# EAGLE library part X09X2 (library connectors)
Connector 2x9 pins
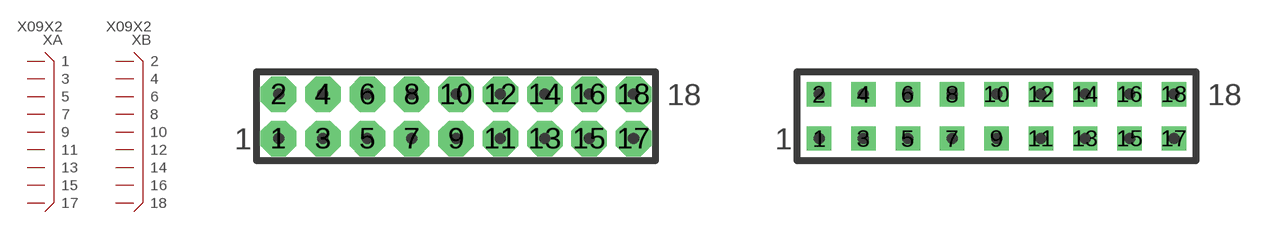
[diagram p48: symbol with the pads of X18N-DIL; footprints X18N-DIL, X18R-DIL]

Designator prefix X; gates A=X18A B=X18B

## X09X2D  [X18N-DIL]
1  A:1
2  B:2
3  A:3
4  B:4
5  A:5
6  B:6
7  A:7
8  B:8
9  A:9
10  B:10
11  A:11
12  B:12
13  A:13
14  B:14
15  A:15
16  B:16
17  A:17
18  B:18

## X09X2DR  [X18R-DIL]
Pads as for X18N-DIL

## X09X2I  [X18N-IDC]
Pads as for X18N-DIL

## X09X2  [X18N-IDC]
Pads as for X18N-DIL

## X09X2IR  [X18R-IDC]
Pads as for X18N-DIL

## Footprint X18N-DIL (pad centres in mm)
Connector 18 pins, DIL
drill 0.889 pad 2.032 octagon: 1 -10.16,-1.27; 2 -10.16,1.27; 3 -7.62,-1.27; 4 -7.62,1.27; 5 -5.08,-1.27; 6 -5.08,1.27; 7 -2.54,-1.27; 8 -2.54,1.27; 9 0,-1.27; 10 0,1.27; 11 2.54,-1.27; 12 2.54,1.27; 13 5.08,-1.27; 14 5.08,1.27; 15 7.62,-1.27; 16 7.62,1.27; 17 10.16,-1.27; 18 10.16,1.27

## Footprint X18R-DIL (pad centres in mm)
Connector 18 pins, DIL, reduced pads
drill 0.889 pad 1.397 square: 1 -10.16,-1.27; 2 -10.16,1.27; 3 -7.62,-1.27; 4 -7.62,1.27; 5 -5.08,-1.27; 6 -5.08,1.27; 7 -2.54,-1.27; 8 -2.54,1.27; 9 0,-1.27; 10 0,1.27; 11 2.54,-1.27; 12 2.54,1.27; 13 5.08,-1.27; 14 5.08,1.27; 15 7.62,-1.27; 16 7.62,1.27; 17 10.16,-1.27; 18 10.16,1.27

## Footprint X18N-IDC (pad centres in mm)
Connector 18 pins, IDC
drill 0.889 pad 2.032 octagon: 1 -10.16,-1.27; 2 -10.16,1.27; 3 -7.62,-1.27; 4 -7.62,1.27; 5 -5.08,-1.27; 6 -5.08,1.27; 7 -2.54,-1.27; 8 -2.54,1.27; 9 0,-1.27; 10 0,1.27; 11 2.54,-1.27; 12 2.54,1.27; 13 5.08,-1.27; 14 5.08,1.27; 15 7.62,-1.27; 16 7.62,1.27; 17 10.16,-1.27; 18 10.16,1.27

## Footprint X18R-IDC (pad centres in mm)
Connector 18 pins, IDC, reduced pads
drill 0.889 pad 1.397 square: 1 -10.16,-1.27; 2 -10.16,1.27; 3 -7.62,-1.27; 4 -7.62,1.27; 5 -5.08,-1.27; 6 -5.08,1.27; 7 -2.54,-1.27; 8 -2.54,1.27; 9 0,-1.27; 10 0,1.27; 11 2.54,-1.27; 12 2.54,1.27; 13 5.08,-1.27; 14 5.08,1.27; 15 7.62,-1.27; 16 7.62,1.27; 17 10.16,-1.27; 18 10.16,1.27